# EAGLE library part 5559ИН14У (library transceivers)
АЕЯР.431230.652 ТУ 5559ИН11АУ - приемопередатчик интерфейса CAN производства АО ПКК "Миландр" Технические условия: АЕЯР.431230.652 ТУ
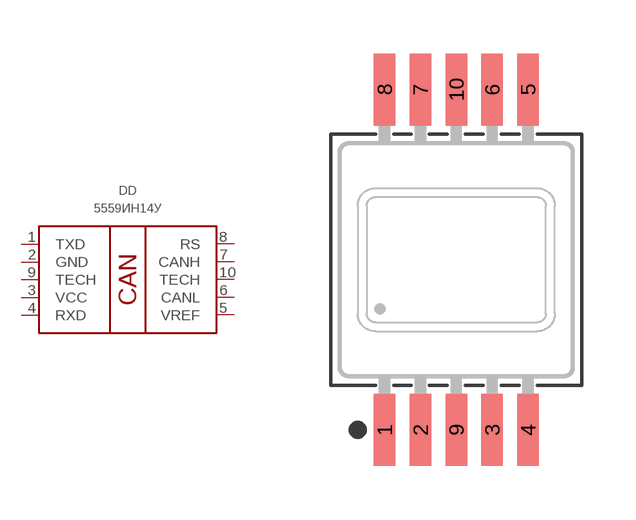
[diagram p2: symbol with the pads of H02.8-1B; footprint H02.8-1B]

Designator prefix DD

## 5559ИН14У  [H02.8-1B]
1  TXD  out
2  GND  pwr
3  VCC  pwr
4  RXD  in
5  VREF  in
6  CANL
7  CANH
8  RS  in
9  TECH  nc
10  TECH  nc

## Footprint H02.8-1B (pad centres in mm)
smd 0.6 x 2: 1 -2,-4.75; 2 -1,-4.75; 3 1,-4.75; 4 2,-4.75; 5 2,4.75; 6 1,4.75; 7 -1,4.75; 8 -2,4.75; 9 0,-4.75; 10 0,4.75